# EAGLE library part M66 (library Bjorn4)
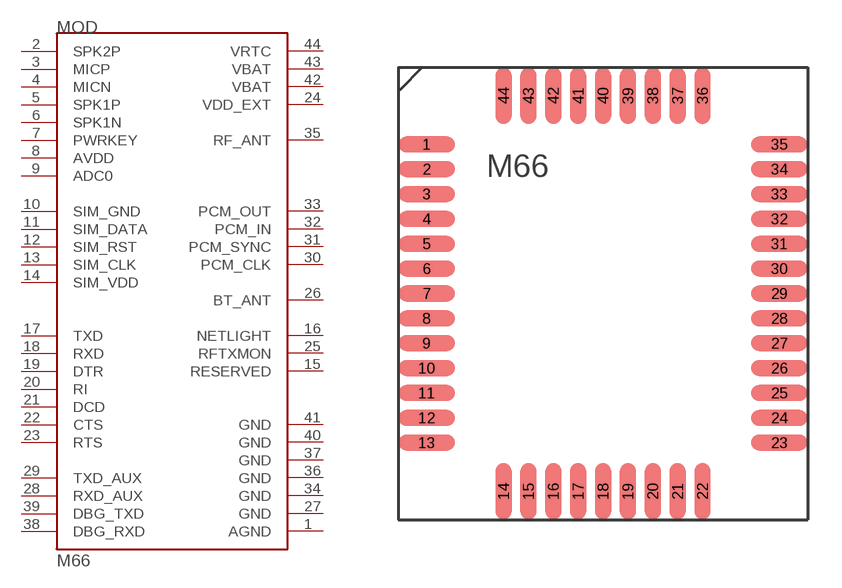
[diagram p2: symbol with the pads of M66; footprint M66]

Designator prefix MOD

## M66  [M66]
1  AGND
2  SPK2P
3  MICP
4  MICN
5  SPK1P
6  SPK1N
7  PWRKEY
8  AVDD
9  ADC0
10  SIM_GND
11  SIM_DATA
12  SIM_RST
13  SIM_CLK
14  SIM_VDD
15  RESERVED
16  NETLIGHT
17  TXD
18  RXD
19  DTR
20  RI
21  DCD
22  CTS
23  RTS
24  VDD_EXT
25  RFTXMON
26  BT_ANT
27  GND
28  RXD_AUX
29  TXD_AUX
30  PCM_CLK
31  PCM_SYNC
32  PCM_IN
33  PCM_OUT
34  GND
35  RF_ANT
36  GND
37  GND
38  DBG_RXD
39  DBG_TXD
40  GND
41  GND
42  VBAT
43  VBAT
44  VRTC

## Footprint M66 (pad centres in mm)
smd 2.5 x 0.7: 1 -7.8,6.6; 2 -7.8,5.5; 3 -7.8,4.4; 4 -7.8,3.3; 5 -7.8,2.2; 6 -7.8,1.1; 7 -7.8,0; 8 -7.8,-1.1; 9 -7.8,-2.2; 10 -7.8,-3.3; 11 -7.8,-4.4; 12 -7.8,-5.5; 13 -7.8,-6.6; 23 7.8,-6.6; 24 7.8,-5.5; 25 7.8,-4.4; 26 7.8,-3.3; 27 7.8,-2.2; 28 7.8,-1.1; 29 7.8,0; 30 7.8,1.1; 31 7.8,2.2; 32 7.8,3.3; 33 7.8,4.4; 34 7.8,5.5; 35 7.8,6.6
smd 0.7 x 2.5: 14 -4.4,-8.75; 15 -3.3,-8.75; 16 -2.2,-8.75; 17 -1.1,-8.75; 18 0,-8.75; 19 1.1,-8.75; 20 2.2,-8.75; 21 3.3,-8.75; 22 4.4,-8.75; 36 4.4,8.75; 37 3.3,8.75; 38 2.2,8.75; 39 1.1,8.75; 40 0,8.75; 41 -1.1,8.75; 42 -2.2,8.75; 43 -3.3,8.75; 44 -4.4,8.75